# Altium footprint library ESC.PcbLib: 17 footprints (part 1 of 2)
Each footprint in its own frame and in the unit in brackets; x right, y up, seen from the top. Pads: shape width x height; smd on the part's side, far side on the other; paste and mask are expansions set on the pad; w line width, h text height; cw(c..) or ccw(c..) is an arc to the next point about the centre after c.
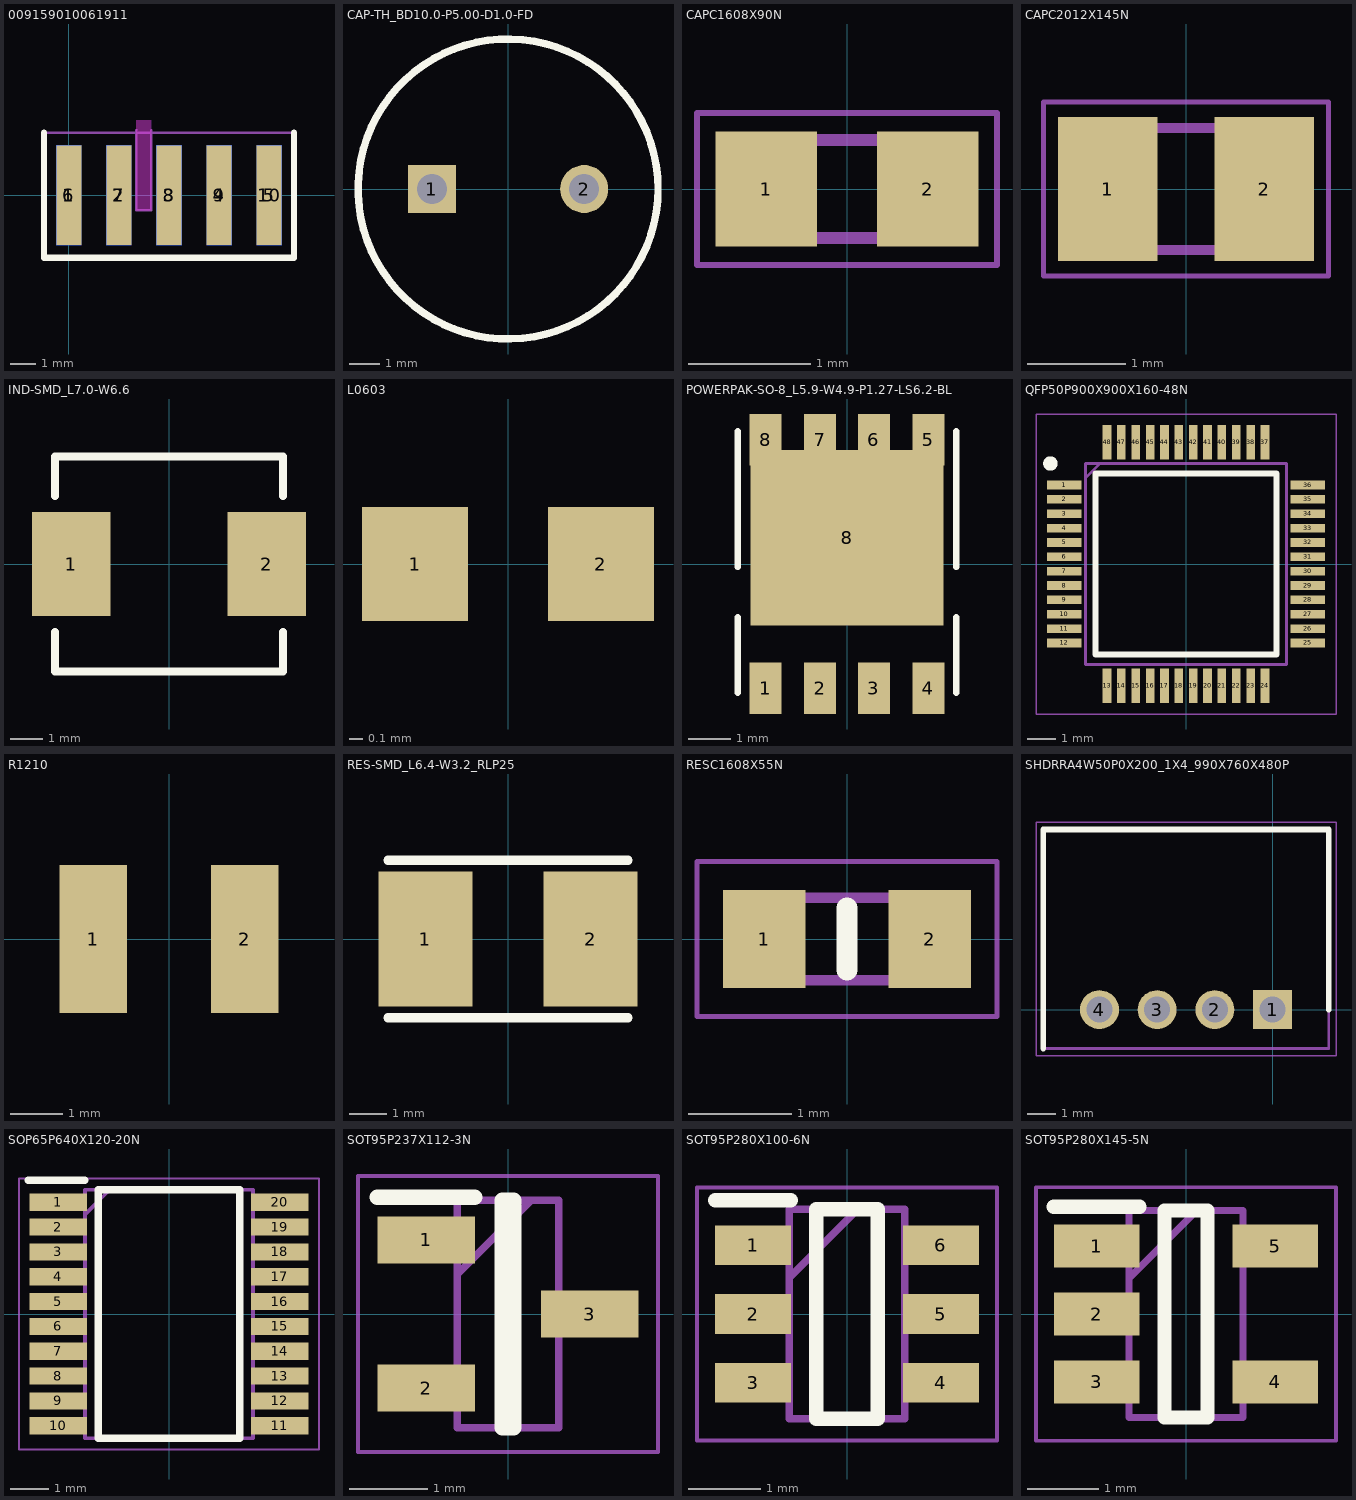
[diagram p0: the footprints below, top view; thin cyan lines are the x and y axes]

## 009159010061911 [mm]
pads (10):
  rect 1x4 smd: 1(0,0) 2(2,0) 3(4,0) 4(6,0) 5(8,0)
  rect 1x4 smd far side: 6(0,0) 7(2,0) 8(4,0) 9(6,0) 10(8,0)
Top Overlay:
  lines w0.254: -1,2.5 -1,-2.5 9,-2.5 9,2.5
Bottom Overlay:
  lines w0.254: -1,2.5 -1,-2.5 9,-2.5 9,2.5
Keep-Out Layer:
  board cut-out: 2.7,3 3.3,3 3.3,-0.6 2.7,-0.6
Mechanical 1:
  lines w0.1: 2.7,2.6 2.7,-0.6 3.3,-0.6 3.3,2.6
Mechanical 15:
  lines w0.1: -1,-2.5 -1,2.5 9,2.5 9,-2.5 -1,-2.5

## CAP-TH_BD10.0-P5.00-D1.0-FD [mm]
pads (2):
  rect 1.6x1.6 hole 1: 1(-2.54,0)
  round 1.6 hole 1: 2(2.54,0)
Top Overlay:
  circle w0.25: c0,0 r5
Mechanical 6:
  circle w0.3: c-2.54,0 r0.15
  circle w0.3: c2.54,0 r0.15
3D body "CAP-TH_D10.0-H16.0-P5.00.step": height 16.1, standoff -3.31, extent -4.989,-4.998 5.01,5.001

## CAPC1608X90N [mm]
pads (2):
  rect 0.83x0.94 smd: 1(-0.66,0) 2(0.66,0)
Mechanical 13:
  lines w0.1: -0.8,-0.4 0.8,-0.4 0.8,0.4 -0.8,0.4 -0.8,-0.4
Mechanical 15:
  lines w0.05: -1.225,-0.62 1.225,-0.62 1.225,0.62 -1.225,0.62 -1.225,-0.62
3D body "CC0603KRX7R9BB104.stp": height 0.9, standoff 0, extent -0.8,-0.4 0.8,0.4

## CAPC2012X145N [mm]
pads (2):
  rect 1.02x1.47 smd: 1(-0.8,0) 2(0.8,0)
Mechanical 13:
  lines w0.1: -1,-0.625 1,-0.625 1,0.625 -1,0.625 -1,-0.625
Mechanical 15:
  lines w0.05: -1.46,-0.89 1.46,-0.89 1.46,0.89 -1.46,0.89 -1.46,-0.89
3D body "CC0805MKX5R8BB226.stp": height 1.45, standoff 0, extent -1,-0.625 1,0.625

## IND-SMD_L7.0-W6.6 [mm]
pads (2):
  rect 2.4x3.2 smd: 1(-3,0) 2(3,0)
Top Overlay:
  lines w0.25: -3.5,-2.08 -3.5,-3.3 -3.49,-3.3 3.5,-3.3 3.5,-2.08 ; -3.5,2.09 -3.5,3.3 3.48,3.3 ; 3.5,2.09 3.5,3.3
3D body "IND-SMD_L7.0-W6.6-H3.0.step": height 3.1, standoff 0, extent -3.5,-3.3 3.5,3.301

## L0603 [mm]
pads (2):
  rect 0.8x0.86 smd: 1(-0.7,0) 2(0.7,0)
3D body "L0603_L1.6-W0.8-H0.5_BEAD.step": height 0.5, standoff 0, extent -0.8,-0.4 0.8,0.4

## POWERPAK-SO-8_L5.9-W4.9-P1.27-LS6.2-BL [mm]
pads (9):
  rect 0.75x1.2 smd: 1(-1.9,-2.9) 2(-0.63,-2.9) 3(0.63,-2.9) 4(1.9,-2.9) 5(1.9,2.9) 6(0.63,2.9) 7(-0.63,2.9) 8(-1.9,2.9)
  rect 4.5x4.1 smd: 8(0,0.61)
Top Overlay:
  lines w0.15: -2.55,-3 -2.55,-1.24 ; -2.55,-0.07 -2.55,3.1 ; 2.55,-3 2.55,-1.24 ; 2.55,-0.07 2.55,3.1
3D body "POWERPAK-SO-8_L5.9-W4.9-P1.27-LS6.2-BL.step": height 1.06, standoff 0.01, extent -2.575,-3.075 2.575,3.075

## QFP50P900X900X160-48N [mm]
pads (48):
  rect 1.2x0.3 smd: 1(-4.238,2.75) 2(-4.238,2.25) 3(-4.238,1.75) 4(-4.238,1.25) 5(-4.238,0.75) 6(-4.238,0.25) 7(-4.238,-0.25) 8(-4.238,-0.75) 9(-4.238,-1.25) 10(-4.238,-1.75) 11(-4.238,-2.25) 12(-4.238,-2.75) 25(4.238,-2.75) 26(4.238,-2.25) 27(4.238,-1.75) 28(4.238,-1.25) 29(4.238,-0.75) 30(4.238,-0.25) 31(4.238,0.25) 32(4.238,0.75) 33(4.238,1.25) 34(4.238,1.75) 35(4.238,2.25) 36(4.238,2.75)
  rect 0.3x1.2 smd: 13(-2.75,-4.238) 14(-2.25,-4.238) 15(-1.75,-4.238) 16(-1.25,-4.238) 17(-0.75,-4.238) 18(-0.25,-4.238) 19(0.25,-4.238) 20(0.75,-4.238) 21(1.25,-4.238) 22(1.75,-4.238) 23(2.25,-4.238) 24(2.75,-4.238) 37(2.75,4.238) 38(2.25,4.238) 39(1.75,4.238) 40(1.25,4.238) 41(0.75,4.238) 42(0.25,4.238) 43(-0.25,4.238) 44(-0.75,4.238) 45(-1.25,4.238) 46(-1.75,4.238) 47(-2.25,4.238) 48(-2.75,4.238)
Top Overlay:
  circle w0.25: c-4.725,3.5 r0.125
  lines w0.2: -3.15,-3.15 3.15,-3.15 3.15,3.15 -3.15,3.15 -3.15,-3.15
Mechanical 13:
  lines w0.1: -3.5,3 -3,3.5 ; -3.5,-3.5 3.5,-3.5 3.5,3.5 -3.5,3.5 -3.5,-3.5
Mechanical 15:
  lines w0.05: -5.225,-5.225 5.225,-5.225 5.225,5.225 -5.225,5.225 -5.225,-5.225
3D body "STM32G431CBT6.stp": height 1.6, standoff 0, extent -4.5,-4.5 4.5,4.5

## R1210 [mm]
pads (2):
  rect 1.28x2.81 smd: 1(-1.44,0) 2(1.44,0)
3D body "R1210_L3.2-W2.6-H0.6.step": height 0.55, standoff 0, extent -1.55,-1.3 1.55,1.301

## RES-SMD_L6.4-W3.2_RLP25 [mm]
pads (2):
  rect 2.5x3.6 smd: 1(-2.2,0) 2(2.2,0)
Top Overlay:
  lines w0.25: -3.2,-2.1 3.2,-2.1 ; -3.2,2.1 3.2,2.1
Mechanical 6:
  circle w0.06: c-3.2,-1.6 r0.03
3D body "RES-SMD_L6.4-W3.2-H0.7.step": height 0.54, standoff -0.16, extent -3.2,-1.6 3.2,1.6

## RESC1608X55N [mm]
pads (2):
  rect 0.8x0.95 smd: 1(-0.8,0) 2(0.8,0)
Top Overlay:
  lines w0.2: 0,-0.3 0,0.3
Mechanical 13:
  lines w0.1: -0.8,-0.4 0.8,-0.4 0.8,0.4 -0.8,0.4 -0.8,-0.4
Mechanical 15:
  lines w0.05: -1.45,-0.75 1.45,-0.75 1.45,0.75 -1.45,0.75 -1.45,-0.75
3D body "RC0603FR-0710KL.stp": height 0.55, standoff 0, extent -0.8,-0.4 0.8,0.4

## SHDRRA4W50P0X200_1X4_990X760X480P [mm]
pads (4):
  rect 1.35x1.35 hole 0.9: 1(0,0)
  round 1.35 hole 0.9: 2(-2,0) 3(-4,0) 4(-6,0)
Top Overlay:
  lines w0.2: -7.95,-1.35 -7.95,6.25 1.95,6.25 1.95,0
Mechanical 13:
  lines w0.1: -7.95,-1.35 -7.95,6.25 1.95,6.25 1.95,-1.35 -7.95,-1.35
Mechanical 15:
  lines w0.05: -8.2,-1.6 -8.2,6.5 2.2,6.5 2.2,-1.6 -8.2,-1.6
3D body "CONN-TH_4P-P2.00_S4B-PH-K-S-LF-SN.step": height 4.8, standoff -3.4, extent -7.951,-1.3 1.95,6.3

## SOP65P640X120-20N [mm]
pads (20):
  rect 1.5x0.45 smd: 1(-2.9,2.925) 2(-2.9,2.275) 3(-2.9,1.625) 4(-2.9,0.975) 5(-2.9,0.325) 6(-2.9,-0.325) 7(-2.9,-0.975) 8(-2.9,-1.625) 9(-2.9,-2.275) 10(-2.9,-2.925) 11(2.9,-2.925) 12(2.9,-2.275) 13(2.9,-1.625) 14(2.9,-0.975) 15(2.9,-0.325) 16(2.9,0.325) 17(2.9,0.975) 18(2.9,1.625) 19(2.9,2.275) 20(2.9,2.925)
Top Overlay:
  lines w0.2: -3.675,3.5 -2.2,3.5 ; -1.85,-3.25 -1.85,3.25 1.85,3.25 1.85,-3.25 -1.85,-3.25
Mechanical 13:
  lines w0.1: -2.2,2.6 -1.55,3.25 ; -2.2,-3.25 -2.2,3.25 2.2,3.25 2.2,-3.25 -2.2,-3.25
Mechanical 15:
  lines w0.05: -3.925,-3.55 -3.925,3.55 3.925,3.55 3.925,-3.55 -3.925,-3.55
3D body "DRV8300DPWR.stp": height 1.13, standoff 0, extent -3.2,-3.25 3.2,3.25

## SOT95P237X112-3N [mm]
pads (3):
  rect 1.25x0.6 smd: 1(-1.05,0.95) 2(-1.05,-0.95) 3(1.05,0)
Top Overlay:
  lines w0.2: -1.675,1.5 -0.425,1.5 ; -0.075,-1.46 -0.075,1.46 0.075,1.46 0.075,-1.46 -0.075,-1.46
Mechanical 13:
  lines w0.1: -0.65,0.51 0.3,1.46 ; -0.65,-1.46 -0.65,1.46 0.65,1.46 0.65,-1.46 -0.65,-1.46
Mechanical 15:
  lines w0.05: -1.925,-1.77 -1.925,1.77 1.925,1.77 1.925,-1.77 -1.925,-1.77
3D body "TMP236A2DBZR.stp": height 1, standoff 0, extent -1.27,-1.46 1.27,1.46

## SOT95P280X100-6N [mm]
pads (6):
  rect 1.05x0.55 smd: 1(-1.3,0.95) 2(-1.3,0) 3(-1.3,-0.95) 4(1.3,-0.95) 5(1.3,0) 6(1.3,0.95)
Top Overlay:
  lines w0.2: -1.825,1.575 -0.775,1.575 ; -0.425,-1.45 0.425,-1.45 0.425,1.45 -0.425,1.45 -0.425,-1.45
Mechanical 13:
  lines w0.1: -0.8,0.5 0.15,1.45 ; -0.8,-1.45 0.8,-1.45 0.8,1.45 -0.8,1.45 -0.8,-1.45
Mechanical 15:
  lines w0.05: -2.075,-1.75 2.075,-1.75 2.075,1.75 -2.075,1.75 -2.075,-1.75
3D body "AP63200WU-7.stp": height 1, standoff 0, extent -1.4,-1.45 1.4,1.45

## SOT95P280X145-5N [mm]
pads (5):
  rect 1.2x0.6 smd: 1(-1.25,0.95) 2(-1.25,0) 3(-1.25,-0.95) 4(1.25,-0.95) 5(1.25,0.95)
Top Overlay:
  lines w0.2: -1.85,1.5 -0.65,1.5 ; -0.3,-1.45 -0.3,1.45 0.3,1.45 0.3,-1.45 -0.3,-1.45
Mechanical 13:
  lines w0.1: -0.8,0.5 0.15,1.45 ; -0.8,-1.45 -0.8,1.45 0.8,1.45 0.8,-1.45 -0.8,-1.45
Mechanical 15:
  lines w0.05: -2.1,-1.775 -2.1,1.775 2.1,1.775 2.1,-1.775 -2.1,-1.775
3D body "INA180A3IDBVR.stp": height 1.2, standoff 0, extent -1.4,-1.45 1.4,1.45